# Altium integrated library Linear Technology Power Management Switching Regulator LTC1174-LTC3901.IntLib: 2647 symbols (part 239 of 364)
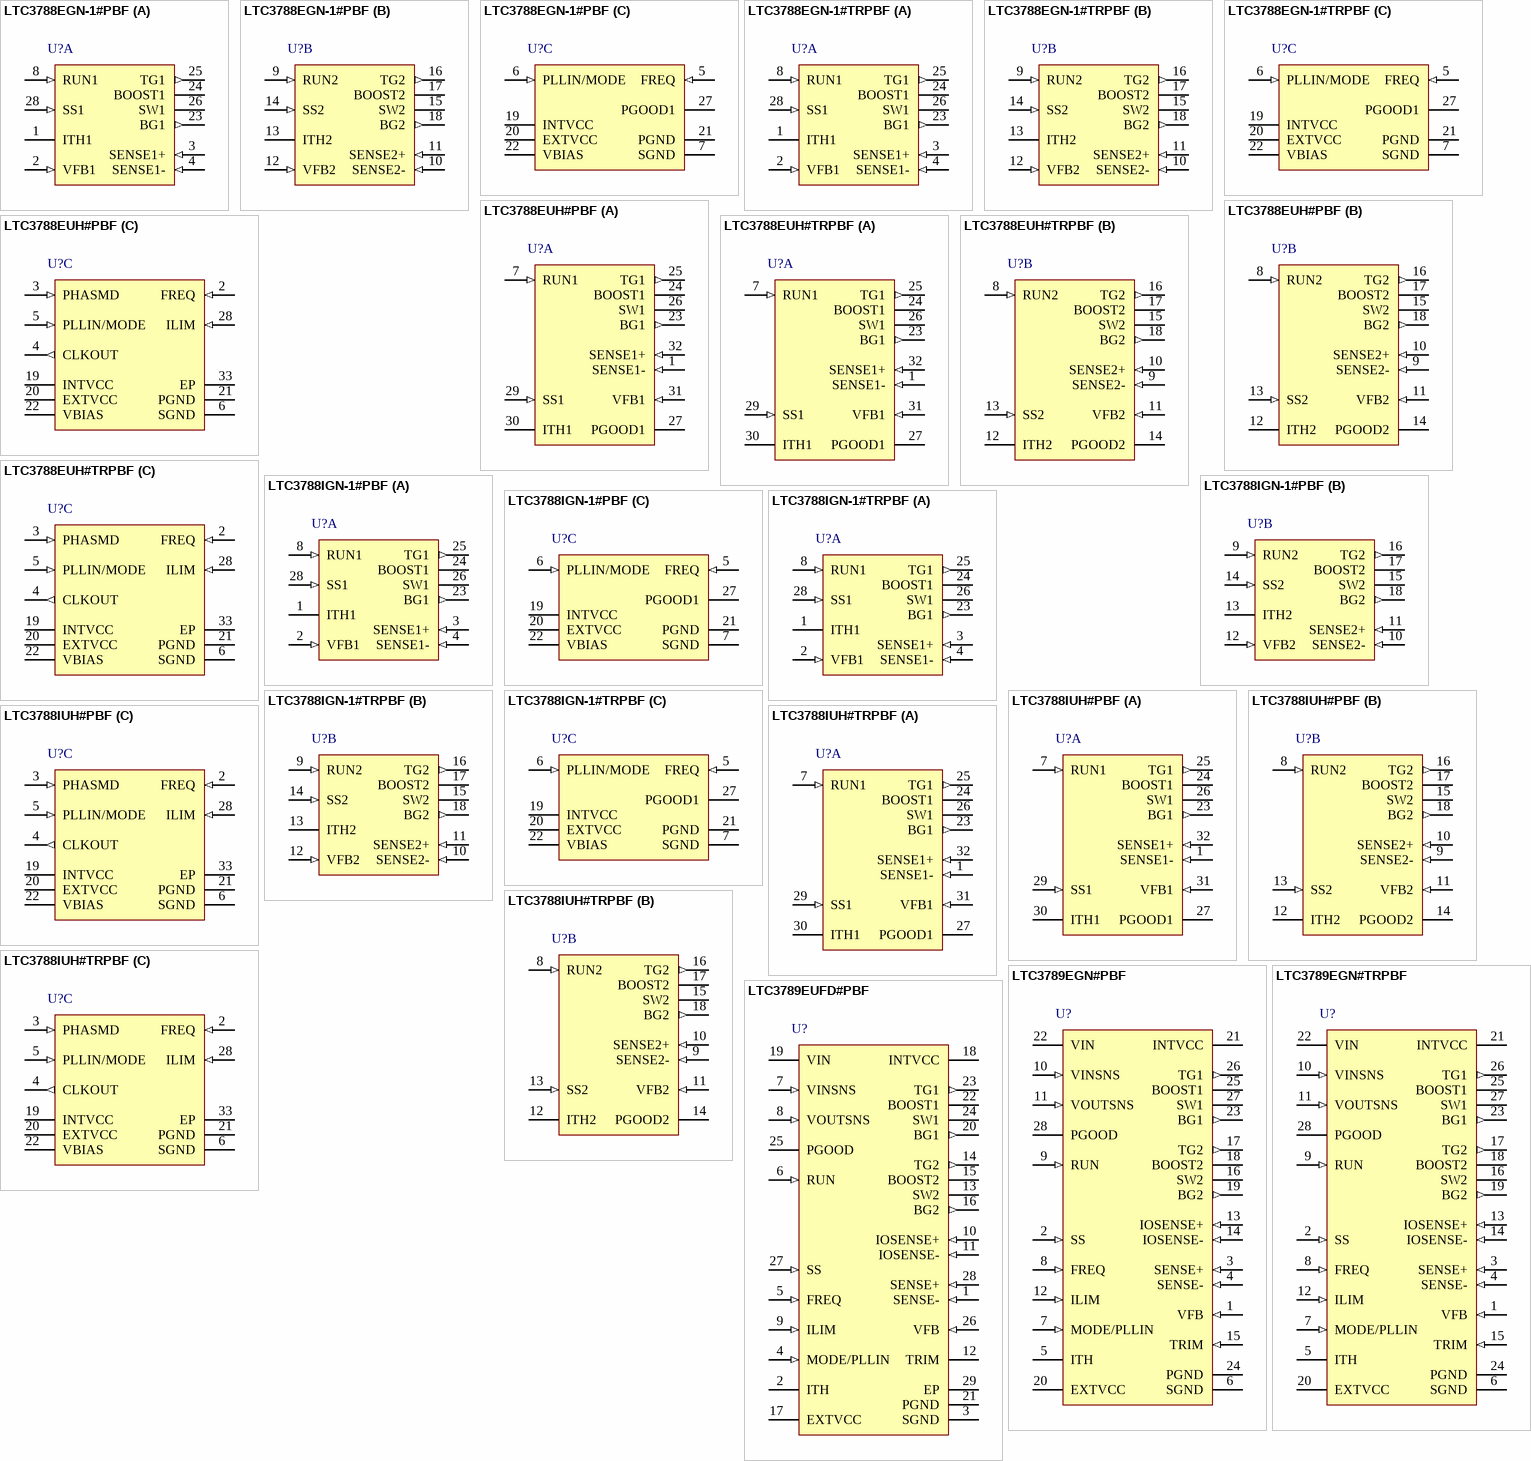
[diagram p338: symbols LTC3788EGN-1#PBF to LTC3789EUFD#PBF]

## LTC3788IUH#PBF
designator U?
2-Phase, Dual Output Synchronous Boost Controller, 32-pin QFN (UH-32), -40 to 125 degC, Pb-Free; Manufacturer: Linear Technology; PartNumber: LTC3788IUH#PBF; Frequency Sync Range: 75kHz - 850kHz; Number of Outputs: 2; DatasheetVersion: Rev. C; PackageVersion: Rev. D, 06/2010; PackageReference: UH-32; PackageDescription: 32-Pin Plastic QFN, Body 5 x 5 mm, Pitch 0.5 mm; Supplier 1: Digi-Key; Supplier Part Number 1: LTC3788IUH#PBF-ND; Supplier 2: Newark; Supplier Part Number 2: 63R6805; RoHS: TRUE; Mounting Technology: Surface Mount; Code_JEDEC: MO-220; ComponentLink1Description: Manufacturer URL; ComponentLink1URL: http://www.linear.com/; ComponentLink2Description: Datasheet; ComponentLink2URL: http://cds.linear.com/docs/en/datasheet/3788fc.pdf; ComponentLink3Description: Package Specification; ComponentLink3URL: http://cds.linear.com/docs/en/packaging/QFN_32_05-08-1693.pdf
footprint LT-UH-32_N (QFN, 32-Leads, Body 5.1x5.1mm, Pitch 0.5mm, Thermal Pad 3.45X3.45mm, IPC Medium Density)
footprint LT-UH-32_L (QFN, 32-Leads, Body 5.1x5.1mm, Pitch 0.5mm, Thermal Pad 3.45X3.45mm, IPC High Density)
footprint LT-UH-32_M (QFN, 32-Leads, Body 5.1x5.1mm, Pitch 0.5mm, Thermal Pad 3.45X3.45mm, IPC Low Density)
part A pins: 1 SENSE1- (in) "Negative Current Sense Comparator Input. The (-) input to the current comparator  is normally connected to the negative terminal of a current sense resistor connected in series with the inductor.  The common mode voltage (See Datasheet)", 7 RUN1 (in) "Run Control Input. Anexternal resistor divider connects to VIN and sets the thresholds for  converter operation with a threshold of 1.28V. Once running, a 4.5uA current is sourced from the RUN pin allowing  the user to (See Datasheet)", 23 BG1 (out) "Bottom Gate. Connect to the  gate of the main NMOS.", 24 BOOST1 "Floating power supply for the synchronous NMOS. Bypass to SW with a capacitor  and supply with a Schottky diode connected to INTVCC.", 25 TG1 (out) "Top Gate. Connect to the gate  of the synchronous NMOS.", 26 SW1 "Switch Node. Connect to the  source of the synchronous NMOS, the drain of the main  NMOS and the inductor", 27 PGOOD1 (oc) "Power Good Indicator for Channel 1.  Open-drain logic output that is pulled to ground when  the output voltage is more than +/-10% away from the  regulated output voltage. To avoid false trips the output  voltage must be (See Datasheet)", 29 SS1 (in) "Output Soft-Start Input. A  capacitor to ground at this pin sets the ramp rate of the  output voltage during start-up.", 30 ITH1 "Current Control Threshold  and Error Amplifier Compensation Point. The voltage on  this pin sets the current trip threshold.", 31 VFB1 (in) "Error Amplifier Feedback  Input. This pin receives the remotely sensed feedback  voltagefromanexternalresistivedividerconnectedacross the output.", 32 SENSE1+ (in) "Positive Current  Sense Comparator Input. The (+) input to the current  comparator is normally connected to the positive terminal  of a current sense resistor. The current sense resistor  is normally placed at the input of (See Datasheet)"
part B pins: 8 RUN2 (in) "Run Control Input. Anexternal resistor divider connects to VIN and sets the thresholds for  converter operation with a threshold of 1.28V. Once running, a 4.5uA current is sourced from the RUN pin allowing  the user to (See Datasheet)", 9 SENSE2- (in) "Negative Current Sense Comparator Input. The (-) input to the current comparator  is normally connected to the negative terminal of a current sense resistor connected in series with the inductor.  The common mode voltage (See Datasheet)", 10 SENSE2+ (in) "Positive Current  Sense Comparator Input. The (+) input to the current  comparator is normally connected to the positive terminal  of a current sense resistor. The current sense resistor  is normally placed at the input of (See Datasheet)", 11 VFB2 (in) "Error Amplifier Feedback  Input. This pin receives the remotely sensed feedback  voltage from an external resistive divider connected across the output.", 12 ITH2 "Current Control Threshold  and Error Amplifier Compensation Point. The voltage on  this pin sets the current trip threshold.", 13 SS2 (in) "Output Soft-Start Input. A  capacitor to ground at this pin sets the ramp rate of the  output voltage during start-up.", 14 PGOOD2 (oc) "Power Good Indicator for Channel 2.  Open-drain logic output that is pulled to ground when  the output voltage is more than +/-10% away from the  regulated output voltage. To avoid false trips the output  voltage must be (See Datasheet)", 15 SW2 "Switch Node. Connect to the  source of the synchronous NMOS, the drain of the main  NMOS and the inductor", 16 TG2 (out) "Top Gate. Connect to the gate  of the synchronous NMOS.", 17 BOOST2 "Floating power supply for the synchronous NMOS. Bypass to SW with a capacitor  and supply with a Schottky diode connected to INTVCC.", 18 BG2 (out) "Bottom Gate. Connect to the  gate of the main NMOS."
part C pins: 2 FREQ (in) "The frequency control pin for the internal  VCO. Connecting the pin to GND forces the VCO to a fixed  low frequency of 350kHz. Connecting the pin to INTVCC forces the VCO to a fixed high frequency of 535kHz. The  frequency (See Datasheet)", 3 PHASMD (in) "This pin can be floated, tied to SGND, or  tied to INTVCC to program the phase relationship between  the rising edges of BG1 and BG2, as well as the phase  relationship between BG1 and CLKOUT.", 4 CLKOUT (out) "A Digital Output Used for Daisychaining  MultipleLTC3788ICsinMultiphaseSystems. ThePHASMD pin voltage controls the relationship between BG1, BG2  and CLKOUT. This pin swings between SGND and INTVCC.", 5 PLLIN/MODE (in) "External Synchronization Input to Phase Detector and Forced Continuous Mode Input.  When an external clock is applied to this pin, it will force  the controller into forced continuous mode of operation  and the phase-locked (See Datasheet)", 6 SGND (power) "Signal Ground. All small-signal components and compensation components should connect to this  ground, which in turn connects to PGNDat a single point.", 19 INTVCC (power) "Output of Internal 5.4V LDO. Power  supply for control circuits and gate drives. Decouple this  pin to GND with a minimum 4.7uF low ESR tantalum or  ceramic capacitor.", 20 EXTVCC (power) "External Power Input. When this pin is  higher than 4.8V an internal switch bypasses the internal  regulatorandsupplypowertoINTVCCdirectlyfromEXTVCC.", 21 PGND (power) "Driver Power Ground. Connects to the  sources of bottom (main) N-channel MOSFETs and the  (-) terminal(s) of CIN and COUT.", 22 VBIAS (power) "Main Supply Pin. It is normally tied to the  input supply VIN or to the output of the boost converter.  A bypass capacitor should be tied between this pin and  the signal ground pin. The operating voltage range on this  pin (See Datasheet)", 28 ILIM (in) "Current Comparator Sense Voltage Range  Input. This pin is used to set the peak current sense voltage in the current comparator. Connect this pin to SGND,  open and INTVCC to set the peak current sense voltage to  50mV, (See Datasheet)", 33 EP (power) "Ground. The exposed pad  must be soldered to the circuit board for rated thermal  performance."